# Altium schematic symbol library AG.Modules.SchLib: 11 symbols
Pins are listed as number, name and electrical type; pins without a type are passive.

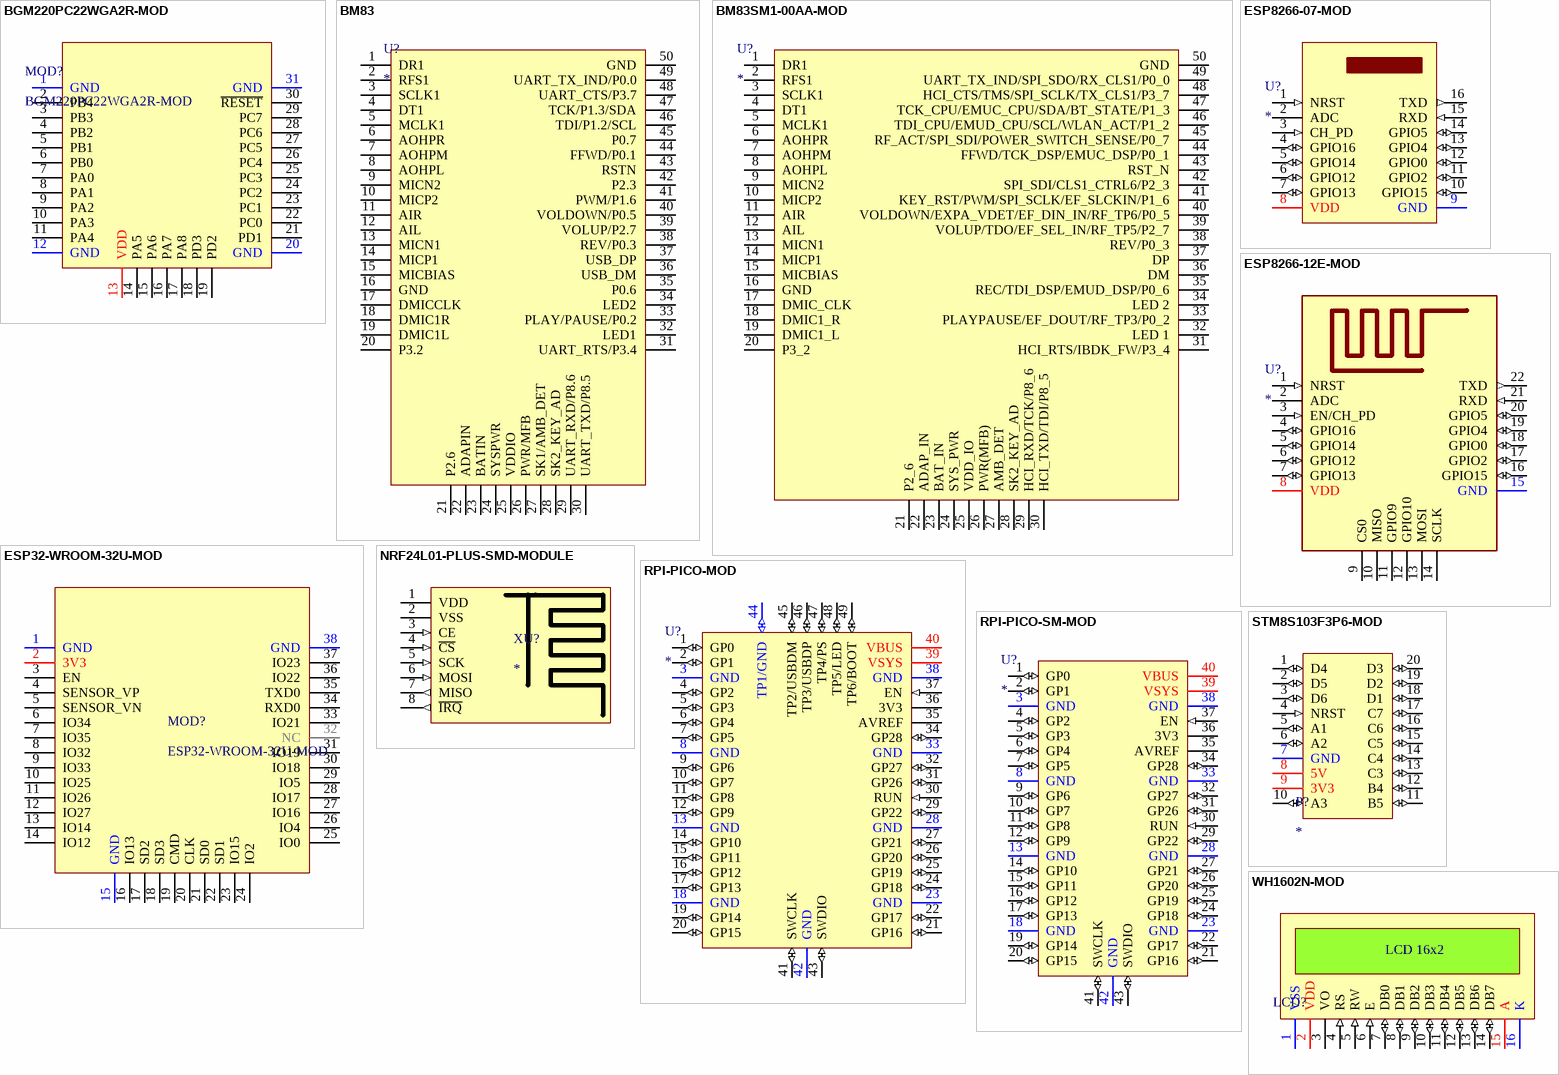
[diagram p0: symbols BGM220PC22WGA2R-MOD to WH1602N-MOD]

## BGM220PC22WGA2R-MOD
designator MOD?
WIRELESS GECKO BLUETOOTH PCB MOD; PartNo: 336-BGM220PC22WGA2RCT-ND; Manufacturer: Silicon Labs; Package: 31-SMD Module; Supplier: DigiKey; UnitPrice: $6.84; URL: https://www.digikey.com/en/products/detail/silicon-labs/BGM220PC22WGA2R/12317146; MountingTechnology: SMT
footprint BGM220P
pins: 1 GND, 2 PB4, 3 PB3, 4 PB2, 5 PB1, 6 PB0, 7 PA0, 8 PA1, 9 PA2, 10 PA3, 11 PA4, 12 GND, 13 VDD, 14 PA5, 15 PA6, 16 PA7, 17 PA8, 18 PD3, 19 PD2, 20 GND, 21 PD1, 22 PC0, 23 PC1, 24 PC2, 25 PC3, 26 PC4, 27 PC5, 28 PC6, 29 PC7, 30 ~{RESET}, 31 GND

## BM83
designator U?
BM83 Bluetooth 5.0 Audio Module
pins: 1 DR1, 2 RFS1, 3 SCLK1, 4 DT1, 5 MCLK1, 6 AOHPR, 7 AOHPM, 8 AOHPL, 9 MICN2, 10 MICP2, 11 AIR, 12 AIL, 13 MICN1, 14 MICP1, 15 MICBIAS, 16 GND, 17 DMICCLK, 18 DMIC1R, 19 DMIC1L, 20 P3.2, 21 P2.6, 22 ADAPIN, 23 BATIN, 24 SYSPWR, 25 VDDIO, 26 PWR/MFB, 27 SK1/AMB_DET, 28 SK2_KEY_AD, 29 UART_RXD/P8.6, 30 UART_TXD/P8.5, 31 UART_RTS/P3.4, 32 LED1, 33 PLAY/PAUSE/P0.2, 34 LED2, 35 P0.6, 36 USB_DM, 37 USB_DP, 38 REV/P0.3, 39 VOLUP/P2.7, 40 VOLDOWN/P0.5, 41 PWM/P1.6, 42 P2.3, 43 RSTN, 44 FFWD/P0.1, 45 P0.7, 46 TDI/P1.2/SCL, 47 TCK/P1.3/SDA, 48 UART_CTS/P3.7, 49 UART_TX_IND/P0.0, 50 GND

## BM83SM1-00AA-MOD
designator U?
RX TXRX MODULE BT PCB TRC SMD; Supplier Link: https://www.digikey.com/en/products/detail/microchip-technology/BM83SM1-00AA/10444954; Supplier Part No: 150-BM83SM1-00AA-ND; Supplier: DigiKey
footprint BM83-MOD (BM83 Bluetooth Audio Module)
pins: 1 DR1, 2 RFS1, 3 SCLK1, 4 DT1, 5 MCLK1, 6 AOHPR, 7 AOHPM, 8 AOHPL, 9 MICN2, 10 MICP2, 11 AIR, 12 AIL, 13 MICN1, 14 MICP1, 15 MICBIAS, 16 GND, 17 DMIC_CLK, 18 DMIC1_R, 19 DMIC1_L, 20 P3_2, 21 P2_6, 22 ADAP_IN, 23 BAT_IN, 24 SYS_PWR, 25 VDD_IO, 26 PWR(MFB), 27 AMB_DET, 28 SK2_KEY_AD, 29 HCI_RXD/TCK/P8_6, 30 HCI_TXD/TDI/P8_5, 31 HCI_RTS/IBDK_FW/P3_4, 32 LED 1, 33 PLAYPAUSE/EF_DOUT/RF_TP3/P0_2, 34 LED 2, 35 REC/TDI_DSP/EMUD_DSP/P0_6, 36 DM, 37 DP, 38 REV/P0_3, 39 VOLUP/TDO/EF_SEL_IN/RF_TP5/P2_7, 40 VOLDOWN/EXPA_VDET/EF_DIN_IN/RF_TP6/P0_5, 41 KEY_RST/PWM/SPI_SCLK/EF_SLCKIN/P1_6, 42 SPI_SDI/CLS1_CTRL6/P2_3, 43 RST_N, 44 FFWD/TCK_DSP/EMUC_DSP/P0_1, 45 RF_ACT/SPI_SDI/POWER_SWITCH_SENSE/P0_7, 46 TDI_CPU/EMUD_CPU/SCL/WLAN_ACT/P1_2, 47 TCK_CPU/EMUC_CPU/SDA/BT_STATE/P1_3, 48 HCI_CTS/TMS/SPI_SCLK/TX_CLS1/P3_7, 49 UART_TX_IND/SPI_SDO/RX_CLS1/P0_0, 50 GND

## ESP32-WROOM-32U-MOD
designator MOD?
RX TXRX MODULE WIFI U.FL SMD; PartNo: 1965-ESP32-WROOM-32U(4MB)CT-ND; Manufacturer: Espressif Systems; ProductNumber: ESP32-WROOM-32U (4MB); Supplier: DigiKey; URL: https://www.digikey.com/en/products/detail/espressif-systems/ESP32-WROOM-32U-4MB/9381719; MountingTechnology: SMT; Package: 38-SMD Module; UnitPrice: $3.80
pins: 1 GND, 2 3V3, 3 EN, 4 SENSOR_VP, 5 SENSOR_VN, 6 IO34, 7 IO35, 8 IO32, 9 IO33, 10 IO25, 11 IO26, 12 IO27, 13 IO14, 14 IO12, 15 GND, 16 IO13, 17 SD2, 18 SD3, 19 CMD, 20 CLK, 21 SD0, 22 SD1, 23 IO15, 24 IO2, 25 IO0, 26 IO4, 27 IO16, 28 IO17, 29 IO5, 30 IO18, 31 IO19, 32 NC, 33 IO21, 34 RXD0, 35 TXD0, 36 IO22, 37 IO23, 38 GND

## ESP8266-07-MOD
designator U?
RX TXRX MOD WIFI TRACE ANT SMD; Mounting Technology: SMT; Package: PCB
footprint ESP8266-7-MOD (RX TXRX MOD WIFI TRACE ANT SMD)
pins: 1 NRST (in), 2 ADC (hiz), 3 CH_PD (in), 4 GPIO16 (io), 5 GPIO14 (io), 6 GPIO12 (io), 7 GPIO13 (io), 8 VDD, 9 GND, 10 GPIO15 (io), 11 GPIO2 (io), 12 GPIO0 (io), 13 GPIO4 (io), 14 GPIO5 (io), 15 RXD (in), 16 TXD (out)

## ESP8266-12E-MOD
designator U?
RX TXRX MOD WIFI TRACE ANT SMD; Manufacturer: Adafruit Industries LLC; Mounting Technology: SMT; Supplier: DigiKey; Supplier Part No: 1528-1438-ND; Supplier Link: https://www.digikey.com/en/products/detail/adafruit-industries-llc/2491/5761206; Package: Module
footprint ESP8266-12E-MOD (RX TXRX MOD WIFI TRACE ANT SMD)
footprint ESP8266-12E-NBP-MOD (RX TXRX MOD WIFI TRACE ANT SMD: No Bottom Pins 9-14)
pins: 1 NRST (in), 2 ADC (hiz), 3 EN/CH_PD (in), 4 GPIO16 (io), 5 GPIO14 (io), 6 GPIO12 (io), 7 GPIO13 (io), 8 VDD, 9 CS0, 10 MISO, 11 GPIO9, 12 GPIO10, 13 MOSI, 14 SCLK, 15 GND, 16 GPIO15 (io), 17 GPIO2 (io), 18 GPIO0 (io), 19 GPIO4 (io), 20 GPIO5 (io), 21 RXD (in), 22 TXD (out)

## NRF24L01-PLUS-SMD-MODULE
designator XU?
NRF24l01+ 2.4GHz Wireless Module Mini Version Power Enhanced Version SMD; ITEM_URL: https://www.aliexpress.com/item/32842054029.html
pins: 1 VDD (power) "Power Supply (1.8-3.6V)", 2 VSS (power) "Ground", 3 CE (in) "Chip Enable (activates TX or RX mode)", 4 ~{CS} (in) "SPI Chip Select", 5 SCK (in) "SPI Clock", 6 MOSI (in) "SPI Master Output Slave Input", 7 MISO (out) "SPI Master Input Slave Output", 8 ~{IRQ} (out) "Interrupt (Active Low)"

## RPI-PICO-MOD
designator U?
RASPBERRY PI PICO RP2040 BOARD TEST PADS; Manufacturer: Raspberry Pi Foundation; Manufacturer Part No: SC0915; Mounting Technology: SMT; Supplier: DigiKey; Supplier Part No: 2648-SC0915CT-ND; Supplier Link: https://www.digikey.com/en/products/detail/raspberry-pi/SC0915/13684020
footprint RPI-PICO-MOD (RASPBERRY PI PICO RP2040 BOARD)
pins: 1 GP0 (io), 2 GP1 (io), 3 GND (power), 4 GP2 (io), 5 GP3 (io), 6 GP4 (io), 7 GP5 (io), 8 GND (power), 9 GP6 (io), 10 GP7 (io), 11 GP8 (io), 12 GP9 (io), 13 GND (power), 14 GP10 (io), 15 GP11 (io), 16 GP12 (io), 17 GP13 (io), 18 GND (power), 19 GP14 (io), 20 GP15 (io), 21 GP16 (io), 22 GP17 (io), 23 GND (power), 24 GP18 (io), 25 GP19 (io), 26 GP20 (io), 27 GP21 (io), 28 GND (power), 29 GP22 (io), 30 RUN (in), 31 GP26 (io), 32 GP27 (io), 33 GND (power), 34 GP28 (io), 35 AVREF (power), 36 3V3 (power), 37 EN (in), 38 GND (power), 39 VSYS (power), 40 VBUS (power), 41 SWCLK (io), 42 GND (power), 43 SWDIO (io), 44 TP1/GND (io), 45 TP2/USBDM (io), 46 TP3/USBDP (io), 47 TP4/PS (io), 48 TP5/LED (io), 49 TP6/BOOT (io)

## RPI-PICO-SM-MOD
designator U?
RASPBERRY PI PICO RP2040 BOARD; Manufacturer: Raspberry Pi Foundation; Manufacturer Part No: SC0915; Mounting Technology: SMT; Supplier: DigiKey; Supplier Part No: 2648-SC0915CT-ND; Supplier Link: https://www.digikey.com/en/products/detail/raspberry-pi/SC0915/13684020
footprint RPI-PICO-MOD (RASPBERRY PI PICO RP2040 BOARD)
pins: 1 GP0 (io), 2 GP1 (io), 3 GND (power), 4 GP2 (io), 5 GP3 (io), 6 GP4 (io), 7 GP5 (io), 8 GND (power), 9 GP6 (io), 10 GP7 (io), 11 GP8 (io), 12 GP9 (io), 13 GND (power), 14 GP10 (io), 15 GP11 (io), 16 GP12 (io), 17 GP13 (io), 18 GND (power), 19 GP14 (io), 20 GP15 (io), 21 GP16 (io), 22 GP17 (io), 23 GND (power), 24 GP18 (io), 25 GP19 (io), 26 GP20 (io), 27 GP21 (io), 28 GND (power), 29 GP22 (io), 30 RUN (in), 31 GP26 (io), 32 GP27 (io), 33 GND (power), 34 GP28 (io), 35 AVREF (power), 36 3V3 (power), 37 EN (in), 38 GND (power), 39 VSYS (power), 40 VBUS (power), 41 SWCLK (io), 42 GND (power), 43 SWDIO (io)

## STM8S103F3P6-MOD
designator P?
STM8S103F3P6 CORE BOARD
pins: 1 D4 (io), 2 D5 (io), 3 D6 (io), 4 NRST (in), 5 A1 (io), 6 A2 (io), 7 GND (power), 8 5V (power), 9 3V3 (power), 10 A3 (io), 11 B5 (io), 12 B4 (io), 13 C3 (io), 14 C4 (io), 15 C5 (io), 16 C6 (io), 17 C7 (io), 18 D1 (io), 19 D2 (io), 20 D3 (io)

## WH1602N-MOD
designator LCD?
Dot Matrix Character LCD Module 16x2; Manufacturer: Winstar; Manufacturer Part No: WH1602B-YYH-CTK; Supplier Link: https://www.chipdip.by/product/wh1602b-yyh-ctk; Supplier: Chipdip; Supplier Part No: 9000032691; Mounting Technology: THT
footprint WH1602N-MOD (Dot Matrix Character LCD Module 16x2)
footprint WH1602N-MOD-NMNT (Dot Matrix Character LCD Module 16x2 No Mounting Holes)
footprint PINHDR-16P1-2.54 (Pin Header Single Row 16 Positions Pitch 2.54 mm)
pins: 1 VSS (power), 2 VDD (power), 3 VO (power), 4 RS (in), 5 RW (in), 6 E (in), 7 DB0 (io), 8 DB1 (io), 9 DB2 (io), 10 DB3 (io), 11 DB4 (io), 12 DB5 (io), 13 DB6 (io), 14 DB7 (io), 15 A (power), 16 K (power)
text: LCD 16x2